# EAGLE library part RGB_LED_6 (library sapphire)
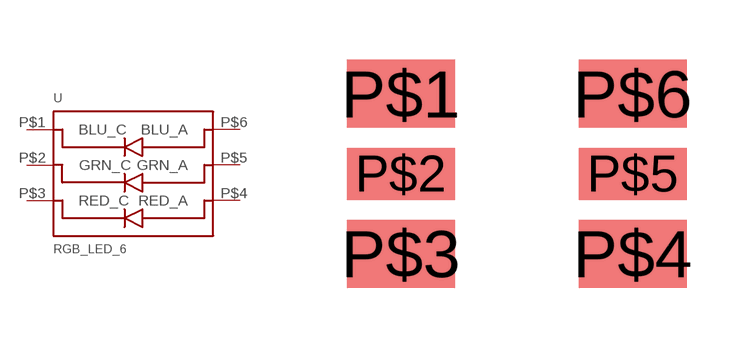
[diagram p13: symbol with the pads of PLCC6; footprint PLCC6]

Designator prefix -

## RGB_LED_6  [PLCC6]
P$1  BLU_C
P$2  GRN_C
P$3  RED_C
P$4  RED_A
P$5  GRN_A
P$6  BLU_A

## Footprint PLCC6 (pad centres in mm)
smd 2.7 x 1.7: P$1 -2.9,2; P$3 -2.9,-2; P$4 2.9,-2; P$6 2.9,2
smd 2.7 x 1.3: P$2 -2.9,0; P$5 2.9,0